# EAGLE library part LTC3525-3.3 (library excitebike)
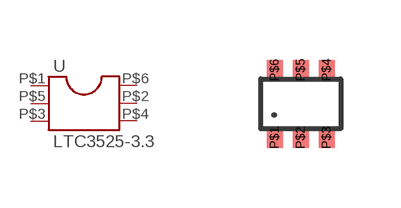
[diagram p0: symbol with the pads of SC70; footprint SC70]

Designator prefix -

## LTC3525-3.3  [SC70]
P$1  SHDN  in
P$2  GND2  sup
P$3  VIN  pwr
P$4  VOUT  out
P$5  GND  sup
P$6  SW  in

## Footprint SC70 (pad centres in mm)
smd 0.4 x 0.5: P$1 -0.65,-0.85; P$2 0,-0.85; P$3 0.65,-0.85; P$4 0.65,0.85; P$5 0,0.85; P$6 -0.65,0.85